# Altium footprint library CAP_100th.PcbLib: 1 footprints
Each footprint in its own frame and in the unit in brackets; x right, y up, seen from the top. Pads: shape width x height; smd on the part's side, far side on the other; paste and mask are expansions set on the pad; w line width, h text height; cw(c..) or ccw(c..) is an arc to the next point about the centre after c.
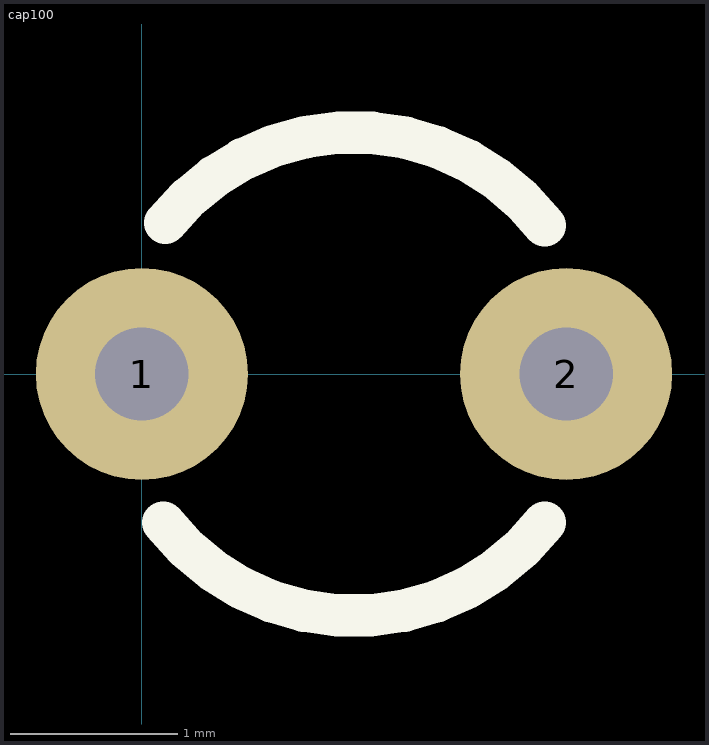
[diagram p0: the footprint, top view; thin cyan lines are the x and y axes]

## cap100 [mil]
pads (2):
  round 50 hole 22: 1(0,0) 2(100,0)
Top Overlay:
  lines w10: 5,-35 ccw(c50,0) 95,-35 ; 5.48,35.61 cw(c50,0) 95,35